# EAGLE library part L9110S (library rc_car)
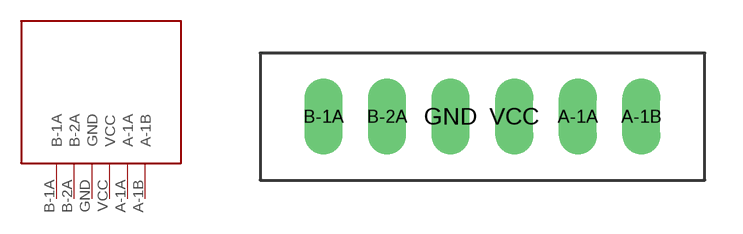
[diagram p0: symbol with the pads of L9100S; footprint L9100S]

Designator prefix -

## L9110S  [L9100S]
A-1A  A-1A
A-1B  A-1B
B-1A  B-1A
B-2A  B-2A
GND  GND
VCC  VCC

## Footprint L9100S (pad centres in mm)
drill 1.016 long: A-1A 2.54,0; A-1B 5.08,0; B-1A -7.62,0; B-2A -5.08,0; GND -2.54,0; VCC 0,0